# Altium footprint library Capacitors_rus.PCBLIB: 349 footprints (part 14 of 22)
Each footprint in its own frame and in the unit in brackets; x right, y up, seen from the top. Pads: shape width x height; smd on the part's side, far side on the other; paste and mask are expansions set on the pad; w line width, h text height; cw(c..) or ccw(c..) is an arc to the next point about the centre after c.
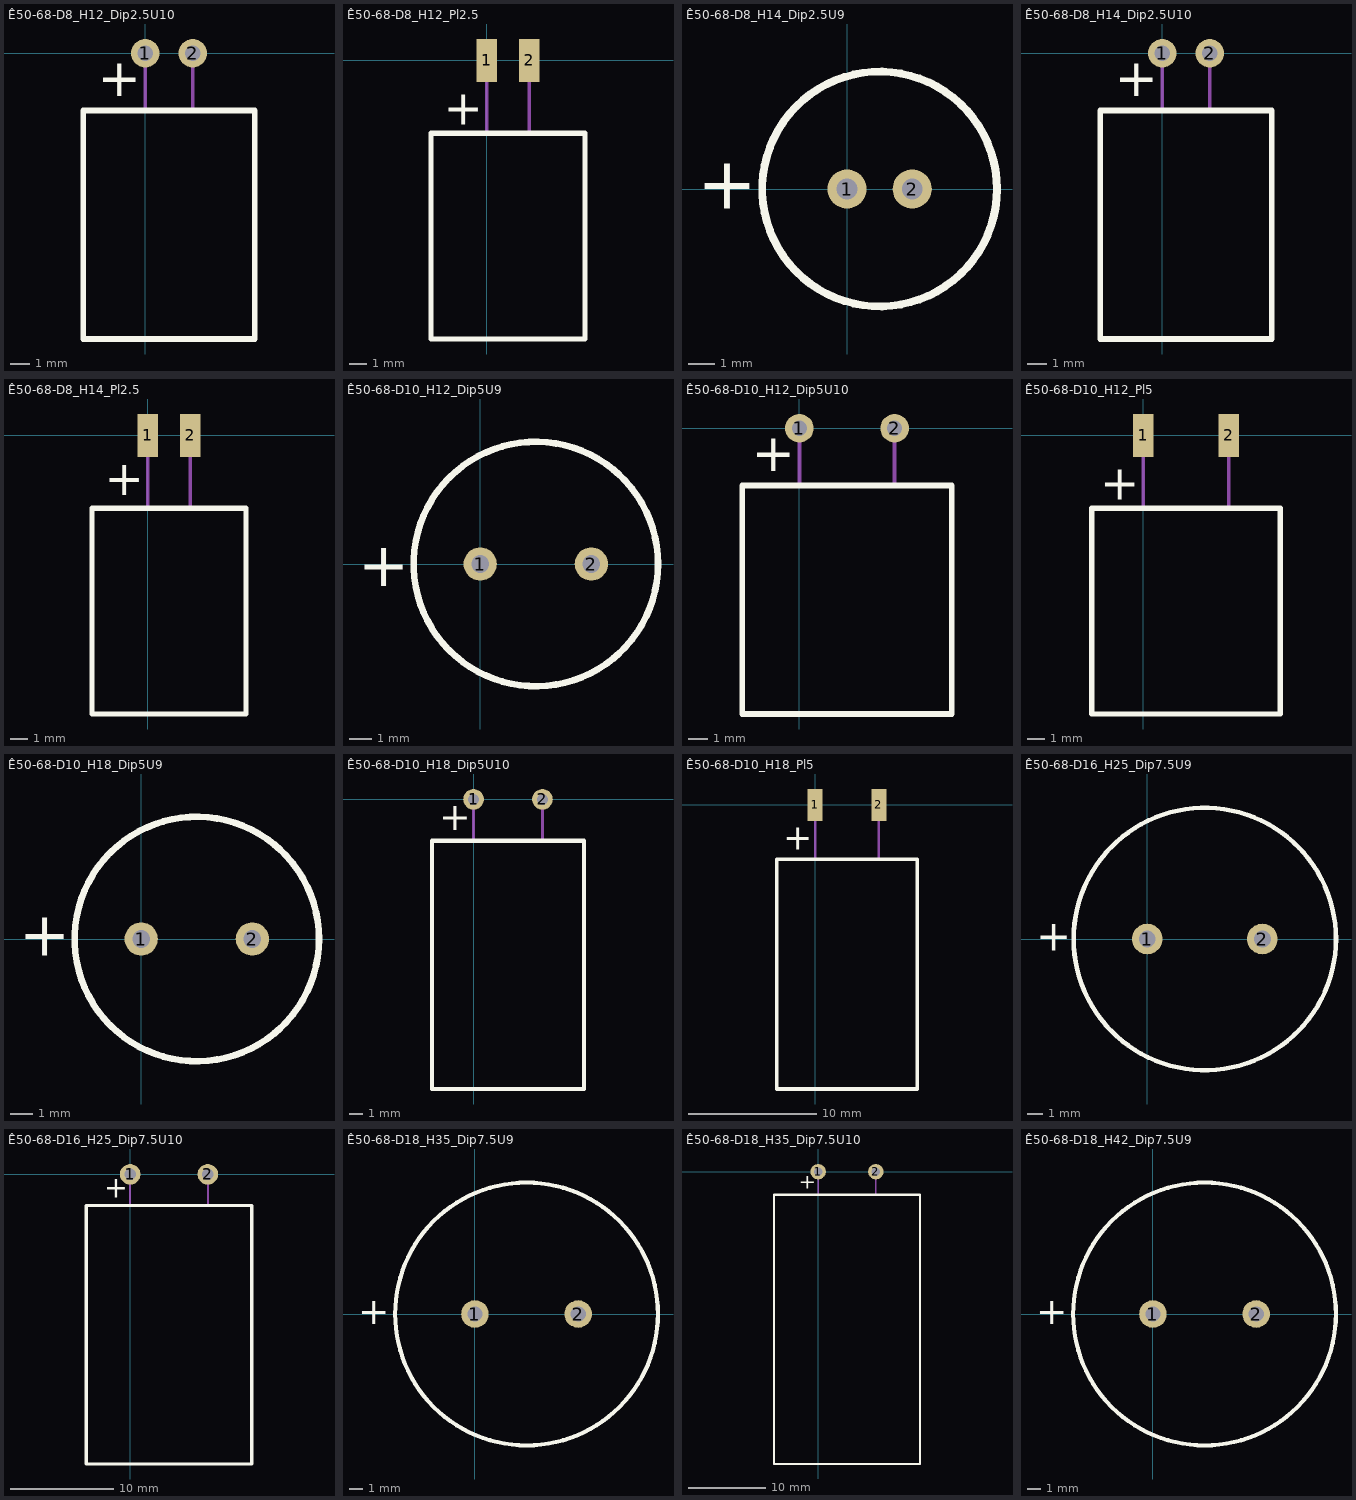
[diagram p13: the footprints below, top view; thin cyan lines are the x and y axes]

## Ê50-68-D8_H12_Dip2.5U10 [mm]
height 8
pads (2):
  round 1.5 hole 0.8: 1(0,0) 2(2.5,0)
Top Overlay:
  lines w0.3: -3.25,-15 -3.25,-3 5.75,-3 5.75,-15 -3.25,-15
  text "+" at -2.5,-2.25 h2
Mechanical 1:
  lines w0.2: 0,-3 0,0 ; 2.5,-3.02 2.5,0 ; -3.25,-15 -3.25,-3 5.75,-3 5.75,-15 -3.25,-15
  text "+" at -0.25,-4.5 h1.5
  text ".Designator" at -0.35,-9.7 h1.5

## Ê50-68-D8_H12_Pl2.5 [mm]
height 8
pads (2):
  rect 1.2x2.5 smd: 1(0,0) 2(2.5,0)
Top Overlay:
  lines w0.3: -3.25,-16.25 5.75,-16.25 5.75,-4.25 -3.25,-4.25 -3.25,-16.25
  text "+" at -2.5,-3.75 h2
Mechanical 1:
  lines w0.2: 0,-4.25 0,0.55 ; 2.5,-4.25 2.5,0.55 ; -3.25,-16.25 5.75,-16.25 5.75,-4.25 -3.25,-4.25 -3.25,-16.25
  text "+" at -0.25,-6 h1.5
  text ".Designator" at -0.15,-10.95 h1.5

## Ê50-68-D8_H14_Dip2.5U9 [mm]
height 14
pads (2):
  round 1.5 hole 0.8: 1(0,0) 2(2.5,0)
Top Overlay:
  circle w0.3: c1.25,0 r4.5
  text "+" at -5.75,-0.75 h2
Mechanical 1:
  circle w0.2: c1.25,0 r4.5
  text "+" at -1.75,-0.5 h1.5
  text ".Designator" at 0.15,-0.45 h1.5

## Ê50-68-D8_H14_Dip2.5U10 [mm]
height 8
pads (2):
  round 1.5 hole 0.8: 1(0,0) 2(2.5,0)
Top Overlay:
  lines w0.3: -3.25,-15 5.75,-15 5.75,-3 -3.25,-3 -3.25,-15
  text "+" at -2.5,-2.25 h2
Mechanical 1:
  lines w0.2: 0,-3 0,0 ; 2.5,-3.02 2.5,0 ; -3.25,-15 5.75,-15 5.75,-3 -3.25,-3 -3.25,-15
  text ".Designator" at -0.5,-9.6 h1.5
  text "+" at -0.25,-4.5 h1.5

## Ê50-68-D8_H14_Pl2.5 [mm]
height 8
pads (2):
  rect 1.2x2.5 smd: 1(0,0) 2(2.5,0)
Top Overlay:
  lines w0.3: -3.25,-16.25 -3.25,-4.25 5.75,-4.25 5.75,-16.25 -3.25,-16.25
  text "+" at -2.5,-3.5 h2
Mechanical 1:
  lines w0.2: 0,-4.25 0,0.55 ; 2.5,-4.25 2.5,0.55 ; -3.25,-16.25 -3.25,-4.25 5.75,-4.25 5.75,-16.25 -3.25,-16.25
  text ".Designator" at -0.6,-10.55 h1.5
  text "+" at -0.25,-5.75 h1.5

## Ê50-68-D10_H12_Dip5U9 [mm]
height 12
pads (2):
  round 1.5 hole 0.8: 1(0,0) 2(5,0)
Top Overlay:
  circle w0.3: c2.5,0 r5.5
  text "+" at -5.5,-1 h2
Mechanical 1:
  circle w0.2: c2.5,0 r5.5
  text "+" at -1.75,-0.5 h1.5
  text ".Designator" at 0.8,-0.5 h1.5

## Ê50-68-D10_H12_Dip5U10 [mm]
height 10
pads (2):
  round 1.5 hole 0.8: 1(0,0) 2(5,0)
Top Overlay:
  lines w0.3: -3,-15 8,-15 8,-3 -3,-3 -3,-15
  text "+" at -2.5,-2.25 h2
Mechanical 1:
  lines w0.2: 0,-3 0,0 ; 5,-3.02 5,0 ; -3,-15 8,-15 8,-3 -3,-3 -3,-15
  text "+" at -0.25,-4.5 h1.5
  text ".Designator" at 0.4,-10.05 h1.5

## Ê50-68-D10_H12_Pl5 [mm]
height 10
pads (2):
  rect 1.2x2.5 smd: 1(0,0) 2(5,0)
Top Overlay:
  lines w0.3: -3,-16.25 8,-16.25 8,-4.25 -3,-4.25 -3,-16.25
  text "+" at -2.5,-3.75 h2
Mechanical 1:
  lines w0.2: 0,-4.25 0,0.55 ; 5,-4.25 5,0.55 ; -3,-16.25 8,-16.25 8,-4.25 -3,-4.25 -3,-16.25
  text ".Designator" at 0.2,-10.9 h1.5
  text "+" at -0.25,-6 h1.5

## Ê50-68-D10_H18_Dip5U9 [mm]
height 18
pads (2):
  round 1.5 hole 0.8: 1(0,0) 2(5,0)
Top Overlay:
  circle w0.3: c2.5,0 r5.5
  text "+" at -5.5,-0.75 h2
Mechanical 1:
  circle w0.2: c2.5,0 r5.5
  text ".Designator" at 0.85,-0.5 h1.5
  text "+" at -1.75,-0.5 h1.5

## Ê50-68-D10_H18_Dip5U10 [mm]
height 10
pads (2):
  round 1.5 hole 0.8: 1(0,0) 2(5,0)
Top Overlay:
  lines w0.3: -3,-21 -3,-3 8,-3 8,-21 -3,-21
  text "+" at -2.5,-2.25 h2
Mechanical 1:
  lines w0.2: 0,-3 0,0 ; 5,-3.02 5,0 ; -3,-21 -3,-3 8,-3 8,-21 -3,-21
  text ".Designator" at 0.4,-12 h1.5
  text "+" at -0.25,-4.5 h1.5

## Ê50-68-D10_H18_Pl5 [mm]
height 10
pads (2):
  rect 1.2x2.5 smd: 1(0,0) 2(5,0)
Top Overlay:
  lines w0.3: -3,-22.25 -3,-4.25 8,-4.25 8,-22.25 -3,-22.25
  text "+" at -2.5,-3.5 h2
Mechanical 1:
  lines w0.2: 0,-4.25 0,0.55 ; 5,-4.25 5,0.55 ; -3,-22.25 -3,-4.25 8,-4.25 8,-22.25 -3,-22.25
  text ".Designator" at 0.5,-12.9 h1.5
  text "+" at -0.25,-5.75 h1.5

## Ê50-68-D16_H25_Dip7.5U9 [mm]
height 25
pads (2):
  round 2 hole 1.1: 1(0,0) 2(7.5,0)
Top Overlay:
  circle w0.3: c3.75,0 r8.55
  text "+" at -7.25,-0.75 h2
Mechanical 1:
  circle w0.2: c3.75,0 r8.55
  text ".Designator" at 1.95,-0.4 h1.5
  text "+" at -1.75,-0.5 h1.5

## Ê50-68-D16_H25_Dip7.5U10 [mm]
height 16
pads (2):
  round 2 hole 1.1: 1(0,0) 2(7.5,0)
Top Overlay:
  lines w0.3: -4.25,-28 -4.25,-3 11.75,-3 11.75,-28 -4.25,-28
  text "+" at -2.5,-2.25 h2
Mechanical 1:
  lines w0.2: 0,-3 0,0 ; 7.5,-3.02 7.5,0 ; -4.25,-28 -4.25,-3 11.75,-3 11.75,-28 -4.25,-28
  text ".Designator" at 1.85,-15.35 h1.5
  text "+" at -0.25,-4.5 h1.5

## Ê50-68-D18_H35_Dip7.5U9 [mm]
height 35
pads (2):
  round 2 hole 1.1: 1(0,0) 2(7.5,0)
Top Overlay:
  circle w0.3: c3.75,0 r9.55
  text "+" at -8.5,-0.75 h2
Mechanical 1:
  circle w0.2: c3.75,0 r9.55
  text "+" at -1.75,-0.5 h1.5
  text ".Designator" at 1.55,-0.3 h1.5

## Ê50-68-D18_H35_Dip7.5U10 [mm]
height 18
pads (2):
  round 2 hole 1.1: 1(0,0) 2(7.5,0)
Top Overlay:
  lines w0.3: -5.75,-38 13.25,-38 13.25,-3 -5.75,-3 -5.75,-38
  text "+" at -2.5,-2.25 h2
Mechanical 1:
  lines w0.2: 0,-3 0,0 ; 7.5,-3.02 7.5,0 ; -5.75,-38 13.25,-38 13.25,-3 -5.75,-3 -5.75,-38
  text ".Designator" at 1,-19.55 h1.5
  text "+" at -0.25,-4.5 h1.5
3D body: height 18.98, standoff -3, extent -5.75,-38 13.175,0.399

## Ê50-68-D18_H42_Dip7.5U9 [mm]
height 42
pads (2):
  round 2 hole 1.1: 1(0,0) 2(7.5,0)
Top Overlay:
  circle w0.3: c3.75,0 r9.55
  text "+" at -8.5,-0.75 h2
Mechanical 1:
  circle w0.2: c3.75,0 r9.55
  text "+" at -1.75,-0.5 h1.5
  text ".Designator" at 1.55,-0.3 h1.5